# Altium integrated library Distance-Sensor-Board.IntLib: 39 symbols
Pins are listed as number, name and electrical type; pins without a type are passive.

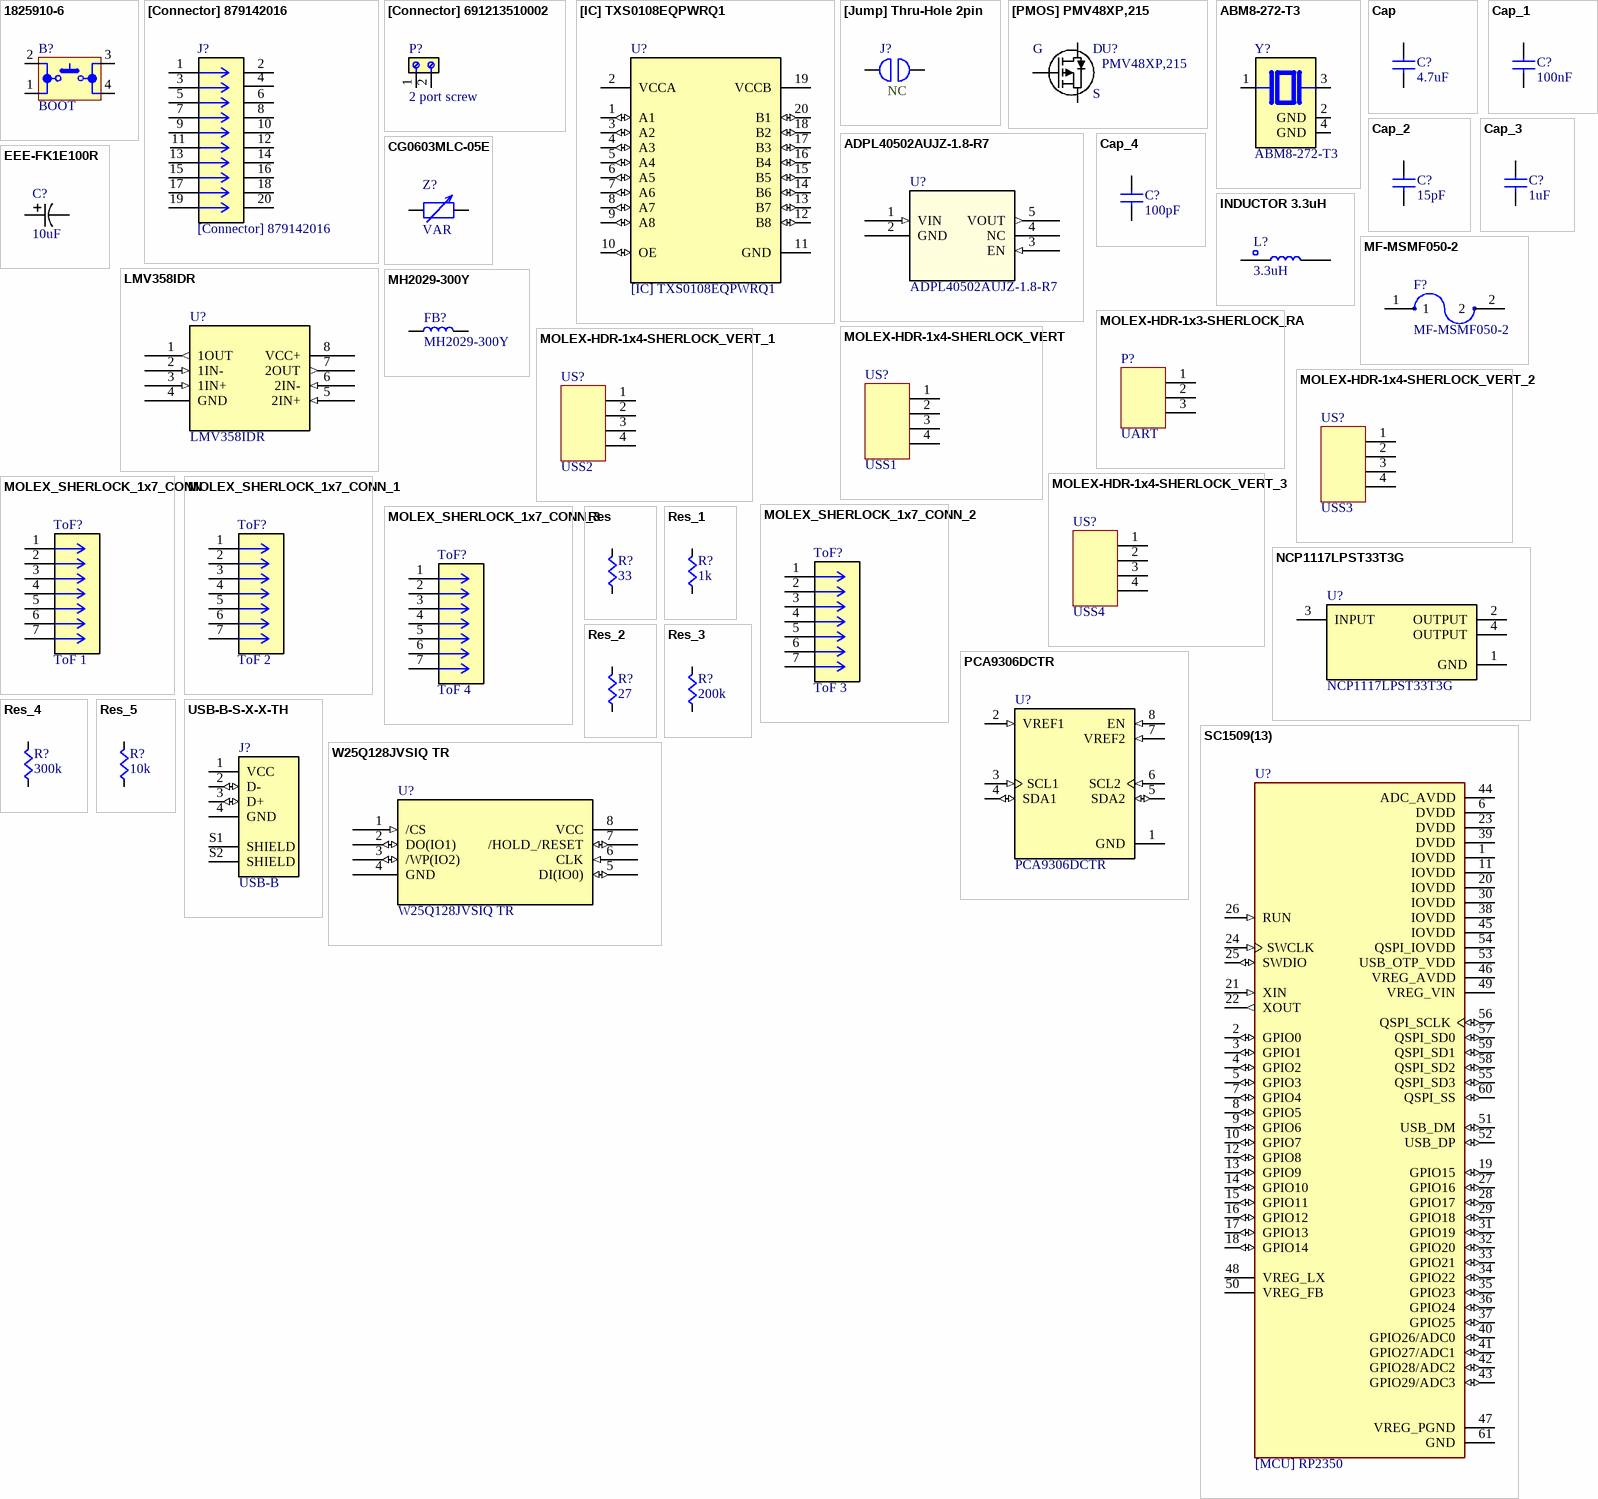
[diagram p0: symbols 1825910-6 to W25Q128JVSIQ TR]

## 1825910-6
designator B?, comment BOOT
SWITCH TACTILE SPST-NO 0.05A 24V; Manufacturer: TE Connectivity Alcoswitch; Manufacturer Part Number: 1825910-6; Actuator Material: PBT; Mechanical Life: 100000Cycles; Operating Force: 160gf; Throw Configuration: SPST; Illumination Type: Non-Illuminated,Illuminated; Switch Travel: 0.25mm; Switch Function: Off-Mom; Contact Current Rating: 50mA; Actuator Type: Standard; Contact Resistance: 100mR; Actuator Length: 0.055inch; RoHS: Yes; Category: Pushbutton Switches; Stock 1: 97530; Pricing 1: 1=0,10000, 10=0,10100, 25=0,09560, 100=0,08700, 250=0,08180, 500=0,07484, 1000=0,06265, 2500=0,06092, 5000=0,05743 (USD); Mount: Through Hole; Contact Material: Copper Alloy; Contact Plating: Silver; Min Operating Temperature: -35°C; Max Operating Temperature: 85°C; Termination: PC Pins; Package Quantity: 750; Packaging: Loose Piece; Orientation: Straight; Max Voltage Rating (DC): 24V; Electrical Life: 100000Cycles; Max Current Rating: 50mA; Type: Switch; Length: 5.99mm; REACH SVHC: Unknown; ELV: Compliant; Lead Free: Lead Free; ComponentLink1URL: https://datasheet.ciiva.com/30199/1825910-6rqpn1825910-6-30199520.pdf?src-supplier=Onlinecomponents.com; ComponentLink1Description: https://datasheet.ciiva.com/30199/1825910-6rqpn1825910-6-30199520.pdf?src-supplier=Onlinecomponents.com; ComponentLink2URL: https://datasheet.ciiva.com/15184/getdatasheetpartid-395915-15184509.pdf?src-supplier=Verical; ComponentLink2Description: https://datasheet.ciiva.com/15184/getdatasheetpartid-395915-15184509.pdf?src-supplier=Verical; Supplier 1: Digi-Key; Supplier Part Number 1: 450-1650-ND
footprint SPST-PUSH-BUTTON (1825910-6)
pins: 1, 2, 3, 4

## [Connector] 879142016
designator J?
2x10 2.54mm pitch header; Package: None; Price: None; Value: *; MP: 879142016; Availability: Unavailable
footprint [Connector] CONN20
pins: 1, 2, 3, 4, 5, 6, 7, 8, 9, 10, 11, 12, 13, 14, 15, 16, 17, 18, 19, 20

## [Connector] 691213510002
designator P?, comment 2 port screw
2 Position Wire to Board Terminal Block Horizontal with Board 0.200 (5.08mm) Through Hole; MF: WÃ¼rth Elektronik; MP: 691213510002; SnapEDA_Link: https://www.snapeda.com/parts/691213510002/W%25C3%25BCrth+Elektronik+Midcom/view-part/?ref=snap; Package: None; Value: *; Check_prices: https://www.snapeda.com/parts/691213510002/W%25C3%25BCrth+Elektronik+Midcom/view-part/?ref=eda
footprint [CONNECTOR] 5MM_2PORT_SCREW (5.08 mm pitch 2 port screw terminal / 691213510002)
pins: 1, 2

## [IC] TXS0108EQPWRQ1
designator U?
Automotive eight-bit bidirectional voltage level shifter for open-drain and push-pull applications; MF: Texas Instruments; SnapEDA_Link: https://www.snapeda.com/parts/TXS0108EQPWRQ1/Texas+Instruments/view-part/?ref=snap; Package: TSSOP-20 Texas Instruments; Value: *; MP: TXS0108EQPWRQ1; Check_prices: https://www.snapeda.com/parts/TXS0108EQPWRQ1/Texas+Instruments/view-part/?ref=eda; ComponentLink1Description: DigiKey_Link; ComponentLink1URL: https://www.digikey.com/en/products/detail/texas-instruments/TXS0108EQPWRQ1/5324256?s=N4IgTCBcDaICoA0DKAGAjCgHAUQIoAUB1AJVzRAF0BfIA
footprint SOP65P640X120-20N
pins: 1 A1 (io), 2 VCCA (power), 3 A2 (io), 4 A3 (io), 5 A4 (io), 6 A5 (io), 7 A6 (io), 8 A7 (io), 9 A8 (io), 10 OE (io), 11 GND (power), 12 B8 (io), 13 B7 (io), 14 B6 (io), 15 B5 (io), 16 B4 (io), 17 B3 (io), 18 B2 (io), 19 VCCB (power), 20 B1 (io)

## [Jump] Thru-Hole 2pin
designator J?, comment NO/NC: NC  (hidden comment: Thru-Hole Jumper)
Clip Jumper
footprint [Jumper] Solderable Jumper
pins: 1, 2

## [PMOS] PMV48XP,215
designator U?, comment PMV48XP,215
MOSFET P-CH 20V 3.5A TO236AB; Manufacturer_Name: Nexperia; Copyright: Copyright (C) 2025 Ultra Librarian. All rights reserved.; Manufacturer_Part_Number: PMV48XP,215
footprint SOT23_NEX (TO-236 (PMOS))
pins: 1 G, 2 S, 3 D

## ABM8-272-T3
designator Y?
12 MHz Â±30ppm Crystal 10pF 50 Ohms 4-SMD, No Lead; MF: ABRACON; SnapEDA_Link: https://www.snapeda.com/parts/ABM8-272-T3/Abracon/view-part/?ref=snap; Package: NON-STANDARD-4 Abracon; Value: *; MP: ABM8-272-T3; Check_prices: https://www.snapeda.com/parts/ABM8-272-T3/Abracon/view-part/?ref=eda
footprint XTAL_ABM8-272-T3
pins: 1, 2 GND (power), 3, 4 GND (power)

## ADPL40502AUJZ-1.8-R7
designator U?
Low Noise, 200mA, CMOS Linear Regulator (LDO); Manufacturer_Name: Analog Devices Inc; Copyright: Copyright (C) 2025 Ultra Librarian. All rights reserved.; Manufacturer_Part_Number: ADPL40502AUJZ-1.8-R7; RefDes: RefDes; Type: Type
footprint TSOT-23-5_UJ-5_ADI (SOT23_5, Thin)
pins: 1 VIN (in), 2 GND (power), 3 EN (in), 4 NC, 5 VOUT (out)

## Cap
designator C?  value 4.7uF  (hidden comment: Cap)
Supplier 1: Digi-Key; Supplier Part Number 1: 1276-1000-1-ND
footprint CAPC0603 (Chip Capacitor, 2-Leads, Body 1.60x0.80mm, IPC Medium Density)
footprint CAPC1206 (Chip Capacitor, 2-Leads, Body 3.20x1.60mm, IPC Medium Density)
footprint CAPC0805 (Chip Capacitor, 2-Leads, Body 2.01x1.25mm, IPC Medium Density)
footprint CAPC0402 (Chip Capacitor, 2-Leads, Body 1.00x0.50mm, IPC Medium Density)
footprint CAP2225 (Chip Capacitor, 2-Leads, Body 5.60x6.40mm, IPC Medium Density)
footprint CAP1808 (Chip Capacitor, 2-Leads, Body 4.50x2.00mm, IPC Medium Density)
footprint CAP1210
pins: 1 A, 2 B

## Cap_1
designator C?, comment value 100nF  (hidden comment: Cap)
Supplier 1: Digi-Key; Supplier Part Number 1: 1276-1000-1-ND
footprint CAPC0603 (Chip Capacitor, 2-Leads, Body 1.60x0.80mm, IPC Medium Density)
footprint CAPC1206 (Chip Capacitor, 2-Leads, Body 3.20x1.60mm, IPC Medium Density)
footprint CAPC0805 (Chip Capacitor, 2-Leads, Body 2.01x1.25mm, IPC Medium Density)
footprint CAPC0402 (Chip Capacitor, 2-Leads, Body 1.00x0.50mm, IPC Medium Density)
footprint CAP2225 (Chip Capacitor, 2-Leads, Body 5.60x6.40mm, IPC Medium Density)
footprint CAP1808 (Chip Capacitor, 2-Leads, Body 4.50x2.00mm, IPC Medium Density)
footprint CAP1210
pins: 1 A, 2 B

## Cap_2
designator C?, comment value 15pF  (hidden comment: Cap)
Supplier 1: Digi-Key; Supplier Part Number 1: 1276-1000-1-ND
footprint CAPC0603 (Chip Capacitor, 2-Leads, Body 1.60x0.80mm, IPC Medium Density)
footprint CAPC1206 (Chip Capacitor, 2-Leads, Body 3.20x1.60mm, IPC Medium Density)
footprint CAPC0805 (Chip Capacitor, 2-Leads, Body 2.01x1.25mm, IPC Medium Density)
footprint CAPC0402 (Chip Capacitor, 2-Leads, Body 1.00x0.50mm, IPC Medium Density)
footprint CAP2225 (Chip Capacitor, 2-Leads, Body 5.60x6.40mm, IPC Medium Density)
footprint CAP1808 (Chip Capacitor, 2-Leads, Body 4.50x2.00mm, IPC Medium Density)
footprint CAP1210
pins: 1 A, 2 B

## Cap_3
designator C?, comment value 1uF  (hidden comment: Cap)
Supplier 1: Digi-Key; Supplier Part Number 1: 1276-1000-1-ND
footprint CAPC0603 (Chip Capacitor, 2-Leads, Body 1.60x0.80mm, IPC Medium Density)
footprint CAPC1206 (Chip Capacitor, 2-Leads, Body 3.20x1.60mm, IPC Medium Density)
footprint CAPC0805 (Chip Capacitor, 2-Leads, Body 2.01x1.25mm, IPC Medium Density)
footprint CAPC0402 (Chip Capacitor, 2-Leads, Body 1.00x0.50mm, IPC Medium Density)
footprint CAP2225 (Chip Capacitor, 2-Leads, Body 5.60x6.40mm, IPC Medium Density)
footprint CAP1808 (Chip Capacitor, 2-Leads, Body 4.50x2.00mm, IPC Medium Density)
footprint CAP1210
pins: 1 A, 2 B

## Cap_4
designator C?, comment value 100pF  (hidden comment: Cap)
Supplier 1: Digi-Key; Supplier Part Number 1: 1276-1000-1-ND
footprint CAPC0603 (Chip Capacitor, 2-Leads, Body 1.60x0.80mm, IPC Medium Density)
footprint CAPC1206 (Chip Capacitor, 2-Leads, Body 3.20x1.60mm, IPC Medium Density)
footprint CAPC0805 (Chip Capacitor, 2-Leads, Body 2.01x1.25mm, IPC Medium Density)
footprint CAPC0402 (Chip Capacitor, 2-Leads, Body 1.00x0.50mm, IPC Medium Density)
footprint CAP2225 (Chip Capacitor, 2-Leads, Body 5.60x6.40mm, IPC Medium Density)
footprint CAP1808 (Chip Capacitor, 2-Leads, Body 4.50x2.00mm, IPC Medium Density)
footprint CAP1210
pins: 1 A, 2 B

## CG0603MLC-05E
designator Z?, comment VAR
[Varistor] 1 Circuit Surface Mount, MLCV 0603 (1608 Metric); MP: CG0603MLC-05E; MF: Bourns; Package: 0603 Bourns Inc.; Availability: In Stock; Value: *; Purchase-URL: https://pricing.snapeda.com/search/part/CG0603MLC-05E/?ref=eda; Check_prices: https://www.snapeda.com/parts/CG0603MLC-05E/Bourns+-+J.W.+Miller/view-part/?ref=eda; Price: None; SnapEDA_Link: https://www.snapeda.com/parts/CG0603MLC-05E/Bourns+-+J.W.+Miller/view-part/?ref=snap
footprint VARC1608X56N
pins: 1, 2

## EEE-FK1E100R
designator C?, comment 10uF
10uF electrolytic cap, radial can, SMD; Manufacturer_Name: Panasonic; Manufacturer_Part_Number: EEE-FK1E100R; Copyright: Copyright (C) 2025 Ultra Librarian. All rights reserved.
footprint RADIAL_CAN_CAP_4_X_5.8_SMD
pins: 1, 2

## INDUCTOR 3.3uH
designator L?, comment 3.3uH
Power Inductors - SMD IND 3.3uH used for RP2350 VREG; Manufacturer_Name: ABRACON; Manufacturer_Part_Number: AOTA-B201610S3R3-101-T; Geometry.Height: 1mm; Mouser Part Number: 815-AB201610S3R3101T; Mouser Price/Stock: https://www.mouser.co.uk/ProductDetail/ABRACON/AOTA-B201610S3R3-101-T?qs=%252BXxaIXUDbq0IZvJW%2F2mv4w%3D%3D; Datasheet Link: https://abracon.com/datasheets/AOTA-B201610S3R3-101-T.pdf
footprint 2016_SMD_Inductor (0806 (2016 Metric))
pins: 1, 2

## LMV358IDR
designator U?
[Op-Amp] Dual, 5.5-V, 1-MHz, RRO operational amplifier 8-SOIC -40 to 125; Manufacturer_Name: Texas Instruments; Copyright: Copyright (C) 2025 Ultra Librarian. All rights reserved.; Manufacturer_Part_Number: LMV358IDR; Datasheet: https://www.ti.com/lit/gpn/lmv358; RefDes: RefDes; Type: Type
footprint SOIC-8 (127P599X175-8N)
pins: 1 1OUT (out), 2 1IN- (in), 3 1IN+ (in), 4 GND (power), 5 2IN+ (in), 6 2IN- (in), 7 2OUT (out), 8 VCC+ (power)

## MF-MSMF050-2
designator F?
[Fuse] Polymeric PTC Resettable Fuse 15V 500 mA Ih Surface Mount 1812 (4532 Metric), Concave; MF: Bourns; MP: MF-MSMF050-2; Availability: In Stock; Check_prices: https://www.snapeda.com/parts/MF-MSMF050-2/Bourns+-+J.W.+Miller/view-part/?ref=eda; Price: None; Package: 1812 Bourns; Purchase-URL: https://pricing.snapeda.com/search/part/MF-MSMF050-2/?ref=eda; Value: *; SnapEDA_Link: https://www.snapeda.com/parts/MF-MSMF050-2/Bourns+-+J.W.+Miller/view-part/?ref=snap
footprint FUSM4632X85
pins: 1, 2

## MH2029-300Y
designator FB?
[Inductor] Ferrite Bead Bourns MH2029-300Y / SMD-FERRITE-BEAD-30R-3A(0805); SnapEDA_Link: https://www.snapeda.com/parts/MH2029-300Y/Bourns/view-part/?ref=snap; Package: 0805 Bourns; Value: *; MF: Bourns; MP: MH2029-300Y; Check_prices: https://www.snapeda.com/parts/MH2029-300Y/Bourns/view-part/?ref=eda
footprint L0805
pins: 1, 2

## MOLEX-HDR-1x3-SHERLOCK_RA
designator P?, comment UART
Header, Molex, 2mm Pitch Sherlock Header, Single Row, Right Angle 3 Circuits, Length 3.3mm; Manufacturer Part Number: 35363-0360; Manufacturer: Molex Connector Corporation; Supplier Part Number 1: WM18932-ND; Supplier 1: Digi-Key
footprint MOLEX-HDR-1X3-SHERLOCK-RA
pins: 1, 2, 3

## MOLEX-HDR-1x4-SHERLOCK_VERT
designator US?, comment USS1
Header, Molex, 2mm Pitch Sherlock Header, Single Row, Vertical, 4 Circuits, Length 3.3mm, 0353620450; Manufacturer Part Number: *; Order Part Number: *
footprint MOLEX-HDR-1X4-SHERLOCK-VERT
pins: 1, 2, 3, 4

## MOLEX-HDR-1x4-SHERLOCK_VERT_1
designator US?, comment USS2
Header, Molex, 2mm Pitch Sherlock Header, Single Row, Vertical, 4 Circuits, Length 3.3mm, 0353620450; Manufacturer Part Number: *; Order Part Number: *
footprint MOLEX-HDR-1X4-SHERLOCK-VERT
pins: 1, 2, 3, 4

## MOLEX-HDR-1x4-SHERLOCK_VERT_2
designator US?, comment USS3
Header, Molex, 2mm Pitch Sherlock Header, Single Row, Vertical, 4 Circuits, Length 3.3mm, 0353620450; Manufacturer Part Number: *; Order Part Number: *
footprint MOLEX-HDR-1X4-SHERLOCK-VERT
pins: 1, 2, 3, 4

## MOLEX-HDR-1x4-SHERLOCK_VERT_3
designator US?, comment USS4
Header, Molex, 2mm Pitch Sherlock Header, Single Row, Vertical, 4 Circuits, Length 3.3mm, 0353620450; Manufacturer Part Number: *; Order Part Number: *
footprint MOLEX-HDR-1X4-SHERLOCK-VERT
pins: 1, 2, 3, 4

## MOLEX_SHERLOCK_1x7_CONN
designator ToF?, comment ToF 1
1x7 2mm pitch sherlock connector; MP: 353620750; Package: None; Price: None; Value: *; Availability: Unavailable
footprint CON_353620750
footprint 7POS_2MM_CONN
pins: 1, 2, 3, 4, 5, 6, 7

## MOLEX_SHERLOCK_1x7_CONN_1
designator ToF?, comment ToF 2
1x7 2mm pitch sherlock connector; MP: 353620750; Package: None; Price: None; Value: *; Availability: Unavailable
footprint CON_353620750
footprint 7POS_2MM_CONN
pins: 1, 2, 3, 4, 5, 6, 7

## MOLEX_SHERLOCK_1x7_CONN_2
designator ToF?, comment ToF 3
1x7 2mm pitch sherlock connector; MP: 353620750; Package: None; Price: None; Value: *; Availability: Unavailable
footprint CON_353620750
footprint 7POS_2MM_CONN
pins: 1, 2, 3, 4, 5, 6, 7

## MOLEX_SHERLOCK_1x7_CONN_3
designator ToF?, comment ToF 4
1x7 2mm pitch sherlock connector; MP: 353620750; Package: None; Price: None; Value: *; Availability: Unavailable
footprint CON_353620750
footprint 7POS_2MM_CONN
pins: 1, 2, 3, 4, 5, 6, 7

## NCP1117LPST33T3G
designator U?
Linear Voltage Regulator IC Positive Fixed 1 Output 1A SOT-223; MF: ON Semiconductor; SnapEDA_Link: https://www.snapeda.com/parts/NCP1117LPST33T3G/Onsemi/view-part/?ref=snap; Package: SOT-223-4 ON Semiconductor; Value: *; MP: NCP1117LPST33T3G; Check_prices: https://www.snapeda.com/parts/NCP1117LPST33T3G/Onsemi/view-part/?ref=eda
footprint SOT230P700X175-4N
pins: 1 GND (power), 2 OUTPUT, 3 INPUT, 4 OUTPUT

## PCA9306DCTR
designator U?
2-bit bidirectional 400-kHz I2C/SMBus voltage level translator; MF: Texas Instruments; SnapEDA_Link: https://www.snapeda.com/parts/PCA9306DCTR/Texas+Instruments/view-part/?ref=snap; Package: SSOP-8 Texas Instruments; Value: *; MP: PCA9306DCTR; Check_prices: https://www.snapeda.com/parts/PCA9306DCTR/Texas+Instruments/view-part/?ref=eda
footprint SOP65P400X130-8N
pins: 1 GND (power), 2 VREF1 (in), 3 SCL1 (in), 4 SDA1 (io), 5 SDA2 (io), 6 SCL2 (in), 7 VREF2 (in), 8 EN (in)

## Res
designator R?  value 33  (hidden comment: Res)
SMD, RES0603; Supplier 1: Digi-Key; Supplier Part Number 1: RMCF0603JT10K0CT-ND
footprint RES0603 (Chip Resistor, 2-Leads, Body 1.60x0.80mm, IPC Medium Density)
footprint FMP300 (Power resistor)
footprint FMP200 (Power resistor Yageo 2W)
footprint RES0402 (Chip Resistor, 2-Leads, Body 1.00x0.50mm, changed from previous)
footprint RES2512 (Chip Resistor, 2-Leads, Body 6.35x3.20mm, IPC Medium Density)
footprint RES1206 (Chip Resistor, 2-Leads, Body 3.20x1.60mm, IPC Medium Density)
footprint RES0805 (Chip Resistor, 2-Leads, Body 2.01x1.25mm, IPC Medium Density)
footprint WSBM8518L1000JT-MOLEX_2 (2 shunt resistor pins of MOLEX type WSBM8518L1000JT)
pins: 1 A, 2 B

## Res_1
designator R?, comment value 1k  (hidden comment: Res)
SMD, RES0603; Supplier 1: Digi-Key; Supplier Part Number 1: RMCF0603JT10K0CT-ND
footprint RES0603 (Chip Resistor, 2-Leads, Body 1.60x0.80mm, IPC Medium Density)
footprint FMP300 (Power resistor)
footprint FMP200 (Power resistor Yageo 2W)
footprint RES0402 (Chip Resistor, 2-Leads, Body 1.00x0.50mm, changed from previous)
footprint RES2512 (Chip Resistor, 2-Leads, Body 6.35x3.20mm, IPC Medium Density)
footprint RES1206 (Chip Resistor, 2-Leads, Body 3.20x1.60mm, IPC Medium Density)
footprint RES0805 (Chip Resistor, 2-Leads, Body 2.01x1.25mm, IPC Medium Density)
footprint WSBM8518L1000JT-MOLEX_2 (2 shunt resistor pins of MOLEX type WSBM8518L1000JT)
pins: 1 A, 2 B

## Res_2
designator R?, comment value 27  (hidden comment: Res)
SMD, RES0603; Supplier 1: Digi-Key; Supplier Part Number 1: RMCF0603JT10K0CT-ND
footprint RES0603 (Chip Resistor, 2-Leads, Body 1.60x0.80mm, IPC Medium Density)
footprint FMP300 (Power resistor)
footprint FMP200 (Power resistor Yageo 2W)
footprint RES0402 (Chip Resistor, 2-Leads, Body 1.00x0.50mm, changed from previous)
footprint RES2512 (Chip Resistor, 2-Leads, Body 6.35x3.20mm, IPC Medium Density)
footprint RES1206 (Chip Resistor, 2-Leads, Body 3.20x1.60mm, IPC Medium Density)
footprint RES0805 (Chip Resistor, 2-Leads, Body 2.01x1.25mm, IPC Medium Density)
footprint WSBM8518L1000JT-MOLEX_2 (2 shunt resistor pins of MOLEX type WSBM8518L1000JT)
pins: 1 A, 2 B

## Res_3
designator R?, comment value 200k  (hidden comment: Res)
SMD, RES0603; Supplier 1: Digi-Key; Supplier Part Number 1: RMCF0603JT10K0CT-ND
footprint RES0603 (Chip Resistor, 2-Leads, Body 1.60x0.80mm, IPC Medium Density)
footprint FMP300 (Power resistor)
footprint FMP200 (Power resistor Yageo 2W)
footprint RES0402 (Chip Resistor, 2-Leads, Body 1.00x0.50mm, changed from previous)
footprint RES2512 (Chip Resistor, 2-Leads, Body 6.35x3.20mm, IPC Medium Density)
footprint RES1206 (Chip Resistor, 2-Leads, Body 3.20x1.60mm, IPC Medium Density)
footprint RES0805 (Chip Resistor, 2-Leads, Body 2.01x1.25mm, IPC Medium Density)
footprint WSBM8518L1000JT-MOLEX_2 (2 shunt resistor pins of MOLEX type WSBM8518L1000JT)
pins: 1 A, 2 B

## Res_4
designator R?, comment value 300k  (hidden comment: Res)
SMD, RES0603; Supplier 1: Digi-Key; Supplier Part Number 1: RMCF0603JT10K0CT-ND
footprint RES0603 (Chip Resistor, 2-Leads, Body 1.60x0.80mm, IPC Medium Density)
footprint FMP300 (Power resistor)
footprint FMP200 (Power resistor Yageo 2W)
footprint RES0402 (Chip Resistor, 2-Leads, Body 1.00x0.50mm, changed from previous)
footprint RES2512 (Chip Resistor, 2-Leads, Body 6.35x3.20mm, IPC Medium Density)
footprint RES1206 (Chip Resistor, 2-Leads, Body 3.20x1.60mm, IPC Medium Density)
footprint RES0805 (Chip Resistor, 2-Leads, Body 2.01x1.25mm, IPC Medium Density)
footprint WSBM8518L1000JT-MOLEX_2 (2 shunt resistor pins of MOLEX type WSBM8518L1000JT)
pins: 1 A, 2 B

## Res_5
designator R?, comment value 10k  (hidden comment: Res)
SMD, RES0603; Supplier 1: Digi-Key; Supplier Part Number 1: RMCF0603JT10K0CT-ND
footprint RES0603 (Chip Resistor, 2-Leads, Body 1.60x0.80mm, IPC Medium Density)
footprint FMP300 (Power resistor)
footprint FMP200 (Power resistor Yageo 2W)
footprint RES0402 (Chip Resistor, 2-Leads, Body 1.00x0.50mm, changed from previous)
footprint RES2512 (Chip Resistor, 2-Leads, Body 6.35x3.20mm, IPC Medium Density)
footprint RES1206 (Chip Resistor, 2-Leads, Body 3.20x1.60mm, IPC Medium Density)
footprint RES0805 (Chip Resistor, 2-Leads, Body 2.01x1.25mm, IPC Medium Density)
footprint WSBM8518L1000JT-MOLEX_2 (2 shunt resistor pins of MOLEX type WSBM8518L1000JT)
pins: 1 A, 2 B

## SC1509(13)
designator U?, comment [MCU] RP2350
RP2350A MCU from Raspberry Pi Pico; QFN 60 7x7,; MP: SC1509-A4; SnapEDA_Link: https://www.snapeda.com/parts/SC1509-A4/Raspberry+Pi/view-part/?ref=snap; Package: None; Value: *; MF: Raspberry Pi; Check_prices: https://www.snapeda.com/parts/SC1509-A4/Raspberry+Pi/view-part/?ref=eda
footprint QFN40P700X700X90-61N (RP2350)
pins: 1 IOVDD (power), 2 GPIO0 (io), 3 GPIO1 (io), 4 GPIO2 (io), 5 GPIO3 (io), 6 DVDD (power), 7 GPIO4 (io), 8 GPIO5 (io), 9 GPIO6 (io), 10 GPIO7 (io), 11 IOVDD (power), 12 GPIO8 (io), 13 GPIO9 (io), 14 GPIO10 (io), 15 GPIO11 (io), 16 GPIO12 (io), 17 GPIO13 (io), 18 GPIO14 (io), 19 GPIO15 (io), 20 IOVDD (power), 21 XIN (in), 22 XOUT (out), 23 DVDD (power), 24 SWCLK (in), 25 SWDIO (io), 26 RUN (in), 27 GPIO16 (io), 28 GPIO17 (io), 29 GPIO18 (io), 30 IOVDD (power), 31 GPIO19 (io), 32 GPIO20 (io), 33 GPIO21 (io), 34 GPIO22 (io), 35 GPIO23 (io), 36 GPIO24 (io), 37 GPIO25 (io), 38 IOVDD (power), 39 DVDD (power), 40 GPIO26/ADC0 (io), 41 GPIO27/ADC1 (io), 42 GPIO28/ADC2 (io), 43 GPIO29/ADC3 (io), 44 ADC_AVDD (power), 45 IOVDD (power), 46 VREG_AVDD (power), 47 VREG_PGND (power), 48 VREG_LX, 49 VREG_VIN (power), 50 VREG_FB, 51 USB_DM (io), 52 USB_DP (io), 53 USB_OTP_VDD (power), 54 QSPI_IOVDD (power), 55 QSPI_SD3 (io), 56 QSPI_SCLK (io), 57 QSPI_SD0 (io), 58 QSPI_SD2 (io), 59 QSPI_SD1 (io), 60 QSPI_SS (io), 61 GND (power)

## USB-B-S-X-X-TH
designator J?, comment USB-B
USB-B (USB TYPE-B) USB 2.0 Receptacle Connector 4 Position Through Hole, Right Angle; MF: Samtec; MP: USB-B-S-F-W-TH-TR; SnapEDA_Link: https://www.snapeda.com/parts/USB-B-S-F-W-TH-TR/Samtec/view-part/?ref=snap; Package: None; Value: *; Check_prices: https://www.snapeda.com/parts/USB-B-S-F-W-TH-TR/Samtec/view-part/?ref=eda
footprint SAMTEC_USB-B-S-X-X-TH
pins: 1 VCC (power), 2 D- (io), 3 D+ (io), 4 GND (power), S1 SHIELD, S2 SHIELD

## W25Q128JVSIQ TR
designator U?
IC FLASH 128MBIT SPI/QUAD 8SOIC; Manufacturer_Name: Winbond; Copyright: Copyright (C) 2025 Ultra Librarian. All rights reserved.; Manufacturer_Part_Number: W25Q128JVSIQ TR; RefDes: RefDes; Type: Type
footprint SOIC_208MIL_WIN
pins: 1 /CS (in), 2 DO(IO1) (io), 3 /WP(IO2) (io), 4 GND (power), 5 DI(IO0) (io), 6 CLK (in), 7 /HOLD_/RESET (io), 8 VCC (power)